# Altium schematic symbol library LTM8049IY.SchLib: 1 symbol
Pins are listed as number, name and electrical type; pins without a type are passive.

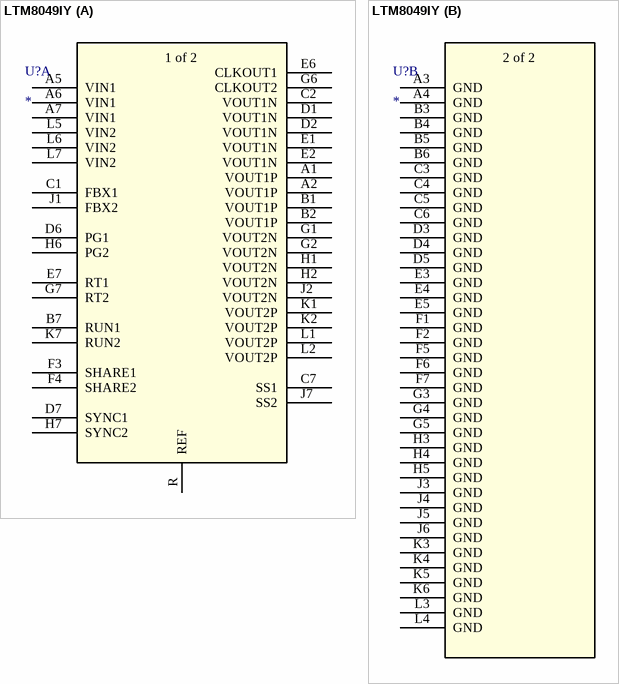
[diagram p0: symbol LTM8049IY]

## LTM8049IY
designator U?
No Description Available; Manufacturer: Analog Devices Inc; Part Number: LTM8049IY; RefDes: RefDes; Type: Type
footprint LTM8049IY_ADI
part A pins: A1 VOUT1P, A2 VOUT1P, A5 VIN1, A6 VIN1, A7 VIN1, B1 VOUT1P, B2 VOUT1P, B7 RUN1, C1 FBX1, C2 VOUT1N, C7 SS1, D1 VOUT1N, D2 VOUT1N, D6 PG1, D7 SYNC1, E1 VOUT1N, E2 VOUT1N, E6 CLKOUT1, E7 RT1, F3 SHARE1, F4 SHARE2, G1 VOUT2N, G2 VOUT2N, G6 CLKOUT2, G7 RT2, H1 VOUT2N, H2 VOUT2N, H6 PG2, H7 SYNC2, J1 FBX2, J2 VOUT2N, J7 SS2, K1 VOUT2P, K2 VOUT2P, K7 RUN2, L1 VOUT2P, L2 VOUT2P, L5 VIN2, L6 VIN2, L7 VIN2, R REF
part B pins: A3 GND, A4 GND, B3 GND, B4 GND, B5 GND, B6 GND, C3 GND, C4 GND, C5 GND, C6 GND, D3 GND, D4 GND, D5 GND, E3 GND, E4 GND, E5 GND, F1 GND, F2 GND, F5 GND, F6 GND, F7 GND, G3 GND, G4 GND, G5 GND, H3 GND, H4 GND, H5 GND, J3 GND, J4 GND, J5 GND, J6 GND, K3 GND, K4 GND, K5 GND, K6 GND, L3 GND, L4 GND
part A text: 1 of 2
part B text: 2 of 2